# EAGLE library part 789318616 (library WE-AGDA)
WE-AGDA Auxiliary Gate Drive Transformer Automotive for SiC-MOSFET and IGBT Characteristics Interwinding capacitance down to <3 pF Tiny surface mount EP7 package Dielectric insulation up to 4 kV AC Basic insulation for 568 Vrms / 800 Vpk AEC-Q200 qualification Common control voltages for SiC MOSFET’s Up to 6 W output power Wide range input voltages 7 V to 36 V Different unipolar and bipolar voltages available Operating temperature: -40 °C up to +130 °C Applications Motor inverters OBCs Active power factor correction Flyback, LLC, Half- and Full Bridge topologies SiC-MOSFET based power converter <https://www.we-online.com/components/media/o893879v209%20multi-78931xxxx.jpg> Details see: www.we-online.com/en/components/products/WE-AGDA <www.we-online.com/catalog/WE-AGDA/?utm_source=eagle_model&utm_medium=description_link&utm_campaign=eisos_eagle> Created by Ella 2026-05-12 2026 (C) Würth Elektronik
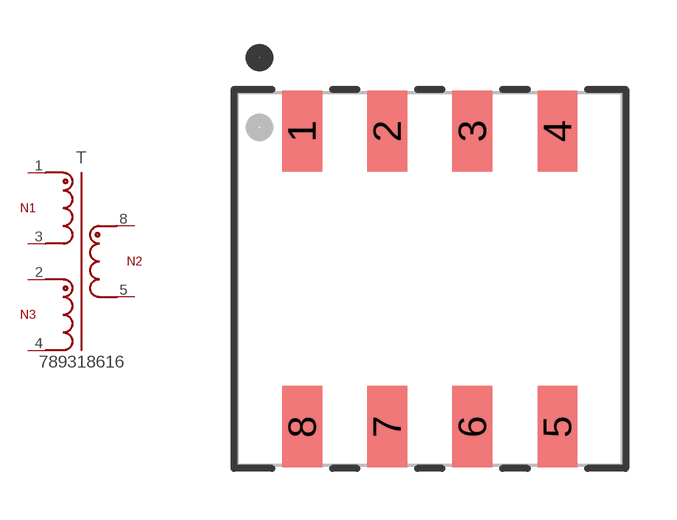
[diagram p2: symbol with the pads of WE-AGDA_EP7; footprint WE-AGDA_EP7]

Designator prefix T

## 789318616 (CWW: 3.25 pF; DATASHEET-URL: https://www.we-online.com/redexpert/spec/789318616?ae; FSWITCH: 400kHz; HEIGHT: 11.94mm; ISAT: 1.85 A; L: 10 uH; LENGTH: 11.3mm; MOUNT: SMT; N: 1.2:2:1; PART-NUMBER: 789318616; PO: 2.7 W; SIZE: EP7; VALUE: 7 - 31 Vin, 27 Vout; VAUX: 13 V; VIN: 7 - 31 V; VOUT1: 27 V; WIDTH: 10.95mm)  [WE-AGDA_EP7]
1  1  pas
2  2  pas
3  3  pas
4  4  pas
5  5  pas
8  8  pas

## Footprint WE-AGDA_EP7 (pad centres in mm)
WE-AGDA Auxiliary Gate Drive Transformer Automotive Size: EP7, SMT, 8pins LXWXH=11.3X109.5X11.94mm
smd 1.17 x 2.39: 1 -3.75,4.345; 2 -1.25,4.345; 3 1.25,4.345; 4 3.75,4.345; 5 3.75,-4.345; 6 1.25,-4.345; 7 -1.25,-4.345; 8 -3.75,-4.345